# Altium schematic symbol library dop_elements.SchLib: 30 symbols
Pins are listed as number, name and electrical type; pins without a type are passive.

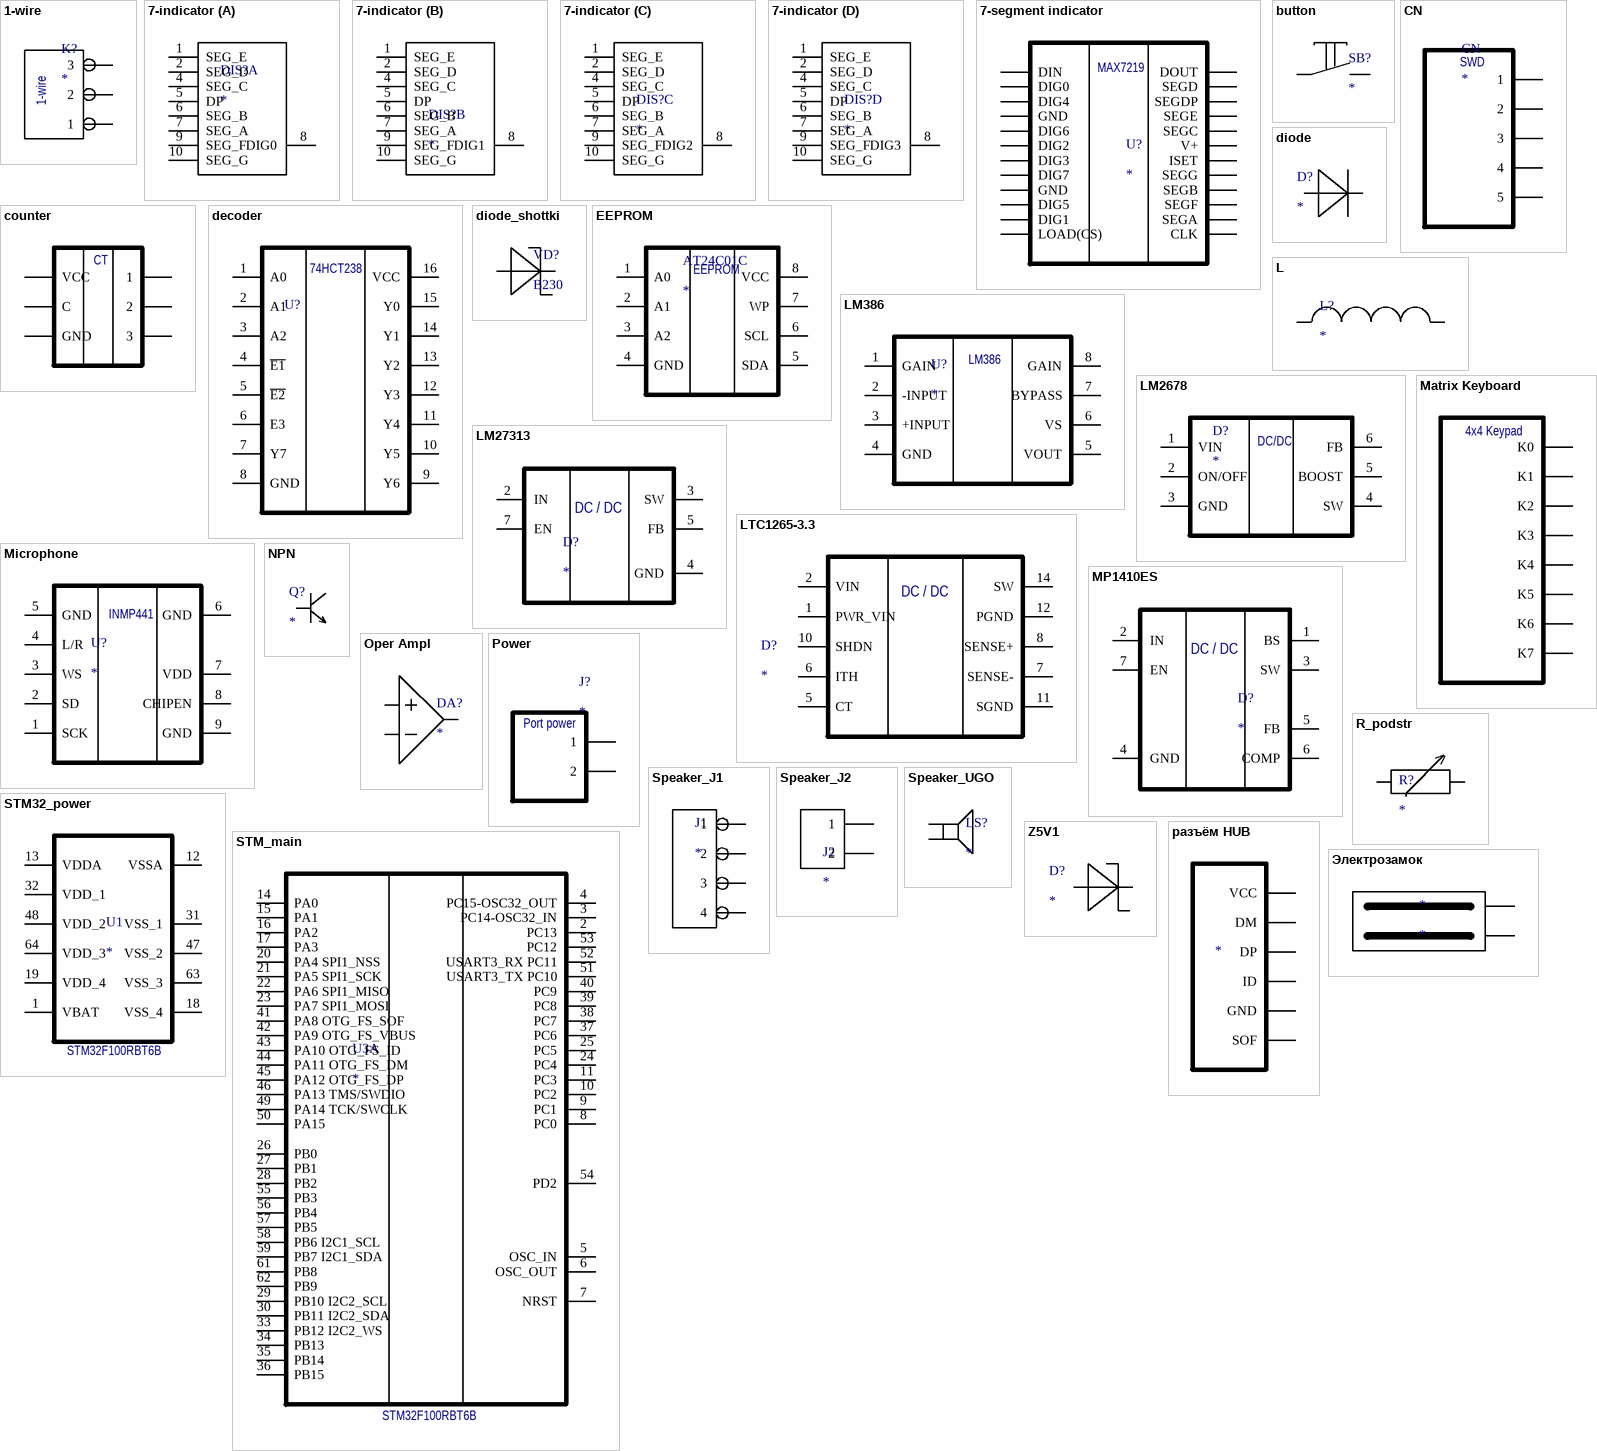
[diagram p0: symbols 1-wire to Электрозамок]

## 1-wire
designator K?
pins: 76 1, 77 2, 78 3

## 7-indicator
designator DIS?
part A pins: 1 SEG_E, 2 SEG_D, 4 SEG_C, 5 DP, 6 SEG_B, 7 SEG_A, 8 DIG0, 9 SEG_F, 10 SEG_G
part B pins: 1 SEG_E, 2 SEG_D, 4 SEG_C, 5 DP, 6 SEG_B, 7 SEG_A, 8 DIG1, 9 SEG_F, 10 SEG_G
part C pins: 1 SEG_E, 2 SEG_D, 4 SEG_C, 5 DP, 6 SEG_B, 7 SEG_A, 8 DIG2, 9 SEG_F, 10 SEG_G
part D pins: 1 SEG_E, 2 SEG_D, 4 SEG_C, 5 DP, 6 SEG_B, 7 SEG_A, 8 DIG3, 9 SEG_F, 10 SEG_G

## 7-segment indicator
designator U?
pins: 92 DIN, 93 DIG0, 94 DIG1, 95 DIG2, 95 GND, 96 DIG3, 96 GND, 96 DOUT, 97 DIG4, 97 SEGD, 98 DIG5, 98 SEGDP, 99 DIG6, 99 SEGE, 100 DIG7, 100 SEGC, 101 V+, 102 ISET, 103 SEGG, 104 SEGB, 105 SEGF, 106 SEGA, 107 CLK, 108 LOAD(CS)
text: MAX7219

## button
designator SB?
pins: 77, 78

## CN
designator CN
pins: 65 1, 66 2, 67 3, 68 4, 69 5
text: SWD

## counter
designator *  (value not drawn)
pins: 79 1, 80 2, 81 3, 82 C, 83 VCC, 84 GND
text: CT

## decoder
designator U?  (value not drawn)
pins: 1 A0, 2 A1, 3 A2, 4 ~{E1}, 5 ~{E2}, 6 E3, 7 Y7, 8 GND, 9 Y6, 10 Y5, 11 Y4, 12 Y3, 13 Y2, 14 Y1, 15 Y0, 16 VCC
text: 74HCT238

## diode
designator D?
pins: 10, 11

## diode_shottki
designator VD?, comment B230
pins: 10, 11

## EEPROM
designator AT24C01C
pins: 1 A0, 2 A1, 3 A2, 4 GND, 5 SDA, 6 SCL, 7 WP, 8 VCC

## L
designator L?
Value: *
pins: 8, 9

## LM386
designator U?
pins: 1 GAIN, 2 -INPUT, 3 +INPUT, 4 GND, 5 VOUT, 6 VS, 7 BYPASS, 8 GAIN

## LM2678
designator D?
pins: 1 VIN, 2 ON/OFF, 3 GND, 4 SW, 5 BOOST, 6 FB
text: DC/DC

## LM27313
designator D?
pins: 2 IN, 3 SW, 4 GND, 5 FB, 7 EN
text: DC / DC

## LTC1265-3.3
designator D?
pins: 1 PWR_VIN, 2 VIN, 5 CT, 6 ITH, 7 SENSE-, 8 SENSE+, 10 SHDN, 11 SGND, 12 PGND, 14 SW
text: DC / DC

## Matrix Keyboard
designator *  (value not drawn)
pins: 82 K0, 83 K1, 84 K2, 85 K3, 86 K4, 87 K5, 88 K6, 89 K7
text: 4x4 Keypad

## Microphone
designator U?
pins: 1 SCK, 2 SD, 3 WS, 4 L/R, 5 GND, 6 GND, 7 VDD, 8 CHIPEN, 9 GND
text: INMP441

## MP1410ES
designator D?
pins: 1 BS, 2 IN, 3 SW, 4 GND, 5 FB, 6 COMP, 7 EN
text: DC / DC

## NPN
designator Q?
pins: 72

## Oper Ampl
designator DA?
pins: 78, 79, 80

## Power
designator J?
pins: 83 1, 84 2
text: Port power

## R_podstr
designator R?
pins: 106, 107, 108

## Speaker_J1
designator J1
pins: 87 1, 88 2, 89 3, 90 4

## Speaker_J2
designator J2
pins: 87 1, 88 2

## Speaker_UGO
designator LS?
pins: 71, 72

## STM32_power
designator U1
pins: 1 VBAT, 12 VSSA, 13 VDDA, 18 VSS_4, 19 VDD_4, 31 VSS_1, 32 VDD_1, 47 VSS_2, 48 VDD_2, 63 VSS_3, 64 VDD_3
text: STM32F100RBT6B

## STM_main
designator U3A
pins: 2 PC13, 3 PC14-OSC32_IN, 4 PC15-OSC32_OUT, 5 OSC_IN, 6 OSC_OUT, 7 NRST, 8 PC0, 9 PC1, 10 PC2, 11 PC3, 14 PA0, 15 PA1, 16 PA2, 17 PA3, 20 PA4 SPI1_NSS, 21 PA5 SPI1_SCK, 22 PA6 SPI1_MISO, 23 PA7 SPI1_MOSI, 24 PC4, 25 PC5, 26 PB0, 27 PB1, 28 PB2, 29 PB10 I2C2_SCL, 30 PB11 I2C2_SDA, 33 PB12 I2C2_WS, 34 PB13, 35 PB14, 36 PB15, 37 PC6, 38 PC7, 39 PC8, 40 PC9, 41 PA8 OTG_FS_SOF, 42 PA9 OTG_FS_VBUS, 43 PA10 OTG_FS_ID, 44 PA11 OTG_FS_DM, 45 PA12 OTG_FS_DP, 46 PA13 TMS/SWDIO, 49 PA14 TCK/SWCLK, 50 PA15, 51 USART3_TX PC10, 52 USART3_RX PC11, 53 PC12, 54 PD2, 55 PB3, 56 PB4, 57 PB5, 58 PB6 I2C1_SCL, 59 PB7 I2C1_SDA, 61 PB8, 62 PB9
text: STM32F100RBT6B

## Z5V1
designator D?
pins: 10, 11

## разъём HUB
designator *
pins: 105 SOF, 106 VCC, 107 ID, 107 GND, 108 DM, 109 DP

## Электрозамок
designator *
pins: 73, 74